# Altium footprint library WQFN.PcbLib: 3 footprints
Each footprint in its own frame and in the unit in brackets; x right, y up, seen from the top. Pads: shape width x height; smd on the part's side, far side on the other; paste and mask are expansions set on the pad; w line width, h text height; cw(c..) or ccw(c..) is an arc to the next point about the centre after c.
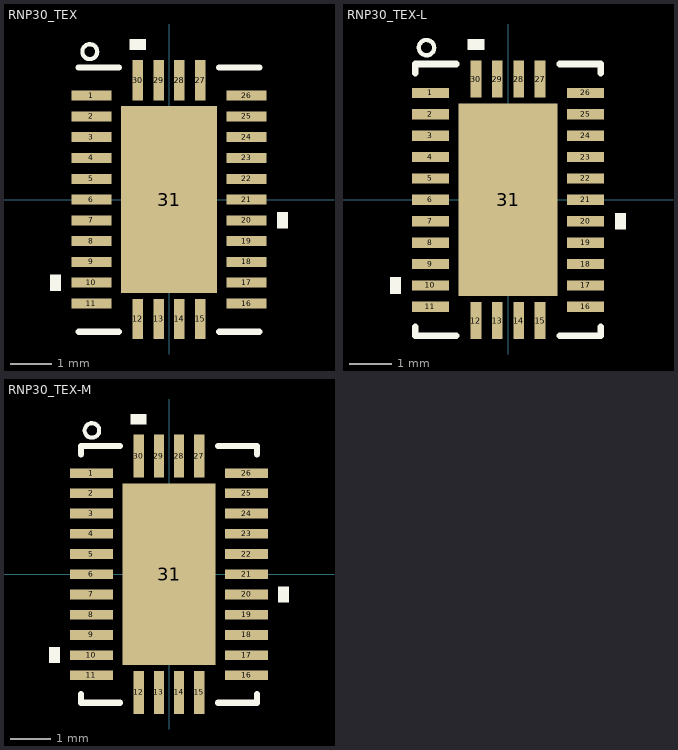
[diagram p0: the footprints below, top view; thin cyan lines are the x and y axes]

## RNP30_TEX [mil]
pads (31):
  rect 38x9.45 smd: 1(-73.5,98.43) 2(-73.5,78.74) 3(-73.5,59.06) 4(-73.5,39.37) 5(-73.5,19.68) 6(-73.5,0) 7(-73.5,-19.68) 8(-73.5,-39.37) 9(-73.5,-59.06) 10(-73.5,-78.74) 11(-73.5,-98.43) 16(73.5,-98.43) 17(73.5,-78.74) 18(73.5,-59.06) 19(73.5,-39.37) 20(73.5,-19.68) 21(73.5,0) 22(73.5,19.68) 23(73.5,39.37) 24(73.5,59.06) 25(73.5,78.74) 26(73.5,98.43)
  rect 10x38 smd: 12(-29.53,-113) 13(-9.84,-113) 14(9.84,-113) 15(29.53,-113) 27(29.53,113) 28(9.84,113) 29(-9.84,113) 30(-29.53,113)
  rect 91x177 smd: 31(0,0)
Top Overlay:
  circle w3.94: c-75,140 r7.07
  region: -22.03,142 -37.03,142 -37.03,152 -22.03,152
  region: 102.5,-12.19 112.5,-12.19 112.5,-27.18 102.5,-27.18
  region: -102.5,-71.24 -112.5,-71.24 -112.5,-86.24 -102.5,-86.24
  lines w6: -85.5,-125 -47.63,-125 ; -85.5,125 -47.63,125 ; 47.63,-125 85.5,-125 ; 47.63,125 85.5,125
Top Paste:
  region: 41.56,-33.44 -41.56,-33.44 -41.56,-84.56 41.56,-84.56
  region: 41.56,25.56 -41.56,25.56 -41.56,-25.56 41.56,-25.56
  region: 41.56,84.56 -41.56,84.56 -41.56,33.44 41.56,33.44
Mechanical 15:
  circle w3.94: c0,0 r15.75
  lines w3.94: -39.37,0 0,0 ; 0,-39.37 0,0 ; 0,39.37 0,0 ; 39.37,0 0,0
3D body: height 10, standoff 0, extent 0,0 10,10
3D body "RNP0030A.stp": height 30.51, standoff -0.98, extent -78.74,-118.11 78.74,118.11

## RNP30_TEX-L [mil]
pads (31):
  rect 34x9.45 smd: 1(-71.5,98.43) 2(-71.5,78.74) 3(-71.5,59.06) 4(-71.5,39.37) 5(-71.5,19.68) 6(-71.5,0) 7(-71.5,-19.68) 8(-71.5,-39.37) 9(-71.5,-59.06) 10(-71.5,-78.74) 11(-71.5,-98.43) 16(71.5,-98.43) 17(71.5,-78.74) 18(71.5,-59.06) 19(71.5,-39.37) 20(71.5,-19.68) 21(71.5,0) 22(71.5,19.68) 23(71.5,39.37) 24(71.5,59.06) 25(71.5,78.74) 26(71.5,98.43)
  rect 10x34 smd: 12(-29.53,-111) 13(-9.84,-111) 14(9.84,-111) 15(29.53,-111) 27(29.53,111) 28(9.84,111) 29(-9.84,111) 30(-29.53,111)
  rect 91x177 smd: 31(0,0)
Top Overlay:
  circle w3.94: c-75,140 r7.07
  region: -98.5,-71.24 -108.5,-71.24 -108.5,-86.24 -98.5,-86.24
  region: 98.5,-12.19 108.5,-12.19 108.5,-27.18 98.5,-27.18
  region: -22.03,138 -37.03,138 -37.03,148 -22.03,148
  lines w6: -85.5,-116.53 -85.5,-125 -47.63,-125 ; -85.5,116.53 -85.5,125 -47.63,125 ; 47.63,-125 85.5,-125 85.5,-116.53 ; 47.63,125 85.5,125 85.5,116.53
Top Paste:
  region: 41.56,84.56 -41.56,84.56 -41.56,33.44 41.56,33.44
  region: 41.56,25.56 -41.56,25.56 -41.56,-25.56 41.56,-25.56
  region: 41.56,-33.44 -41.56,-33.44 -41.56,-84.56 41.56,-84.56
Mechanical 15:
  circle w3.94: c0,0 r15.75
  lines w3.94: -39.37,0 0,0 ; 0,-39.37 0,0 ; 0,39.37 0,0 ; 39.37,0 0,0
3D body: height 10, standoff 0, extent 0,0 10,10
3D body "RNP0030A.stp": height 30.51, standoff -0.98, extent -78.74,-118.11 78.74,118.11

## RNP30_TEX-M [mil]
pads (31):
  rect 42x9.45 smd: 1(-75.5,98.43) 2(-75.5,78.74) 3(-75.5,59.06) 4(-75.5,39.37) 5(-75.5,19.68) 6(-75.5,0) 7(-75.5,-19.68) 8(-75.5,-39.37) 9(-75.5,-59.06) 10(-75.5,-78.74) 11(-75.5,-98.43) 16(75.5,-98.43) 17(75.5,-78.74) 18(75.5,-59.06) 19(75.5,-39.37) 20(75.5,-19.68) 21(75.5,0) 22(75.5,19.68) 23(75.5,39.37) 24(75.5,59.06) 25(75.5,78.74) 26(75.5,98.43)
  rect 10x42 smd: 12(-29.53,-115) 13(-9.84,-115) 14(9.84,-115) 15(29.53,-115) 27(29.53,115) 28(9.84,115) 29(-9.84,115) 30(-29.53,115)
  rect 91x177 smd: 31(0,0)
Top Overlay:
  circle w3.94: c-75,140 r7.07
  region: -106.5,-71.24 -116.5,-71.24 -116.5,-86.24 -106.5,-86.24
  region: 106.5,-12.19 116.5,-12.19 116.5,-27.18 106.5,-27.18
  region: -22.03,146 -37.03,146 -37.03,156 -22.03,156
  lines w6: -85.5,-116.53 -85.5,-125 -47.63,-125 ; -85.5,116.53 -85.5,125 -47.63,125 ; 47.63,-125 85.5,-125 85.5,-116.53 ; 47.63,125 85.5,125 85.5,116.53
Top Paste:
  region: 41.56,84.56 -41.56,84.56 -41.56,33.44 41.56,33.44
  region: 41.56,25.56 -41.56,25.56 -41.56,-25.56 41.56,-25.56
  region: 41.56,-33.44 -41.56,-33.44 -41.56,-84.56 41.56,-84.56
Mechanical 15:
  circle w3.94: c0,0 r15.75
  lines w3.94: -39.37,0 0,0 ; 0,-39.37 0,0 ; 0,39.37 0,0 ; 39.37,0 0,0
3D body "RNP0030A.stp": height 30.51, standoff -0.98, extent -78.74,-118.11 78.74,118.11
3D body: height 10, standoff 0, extent 0,0 10,10